# Altium footprint library 452006250-3#NIBP涡轮驱动板V2.001.PcbLib: 80 footprints (part 4 of 5)
Each footprint in its own frame and in the unit in brackets; x right, y up, seen from the top. Pads: shape width x height; smd on the part's side, far side on the other; paste and mask are expansions set on the pad; w line width, h text height; cw(c..) or ccw(c..) is an arc to the next point about the centre after c.
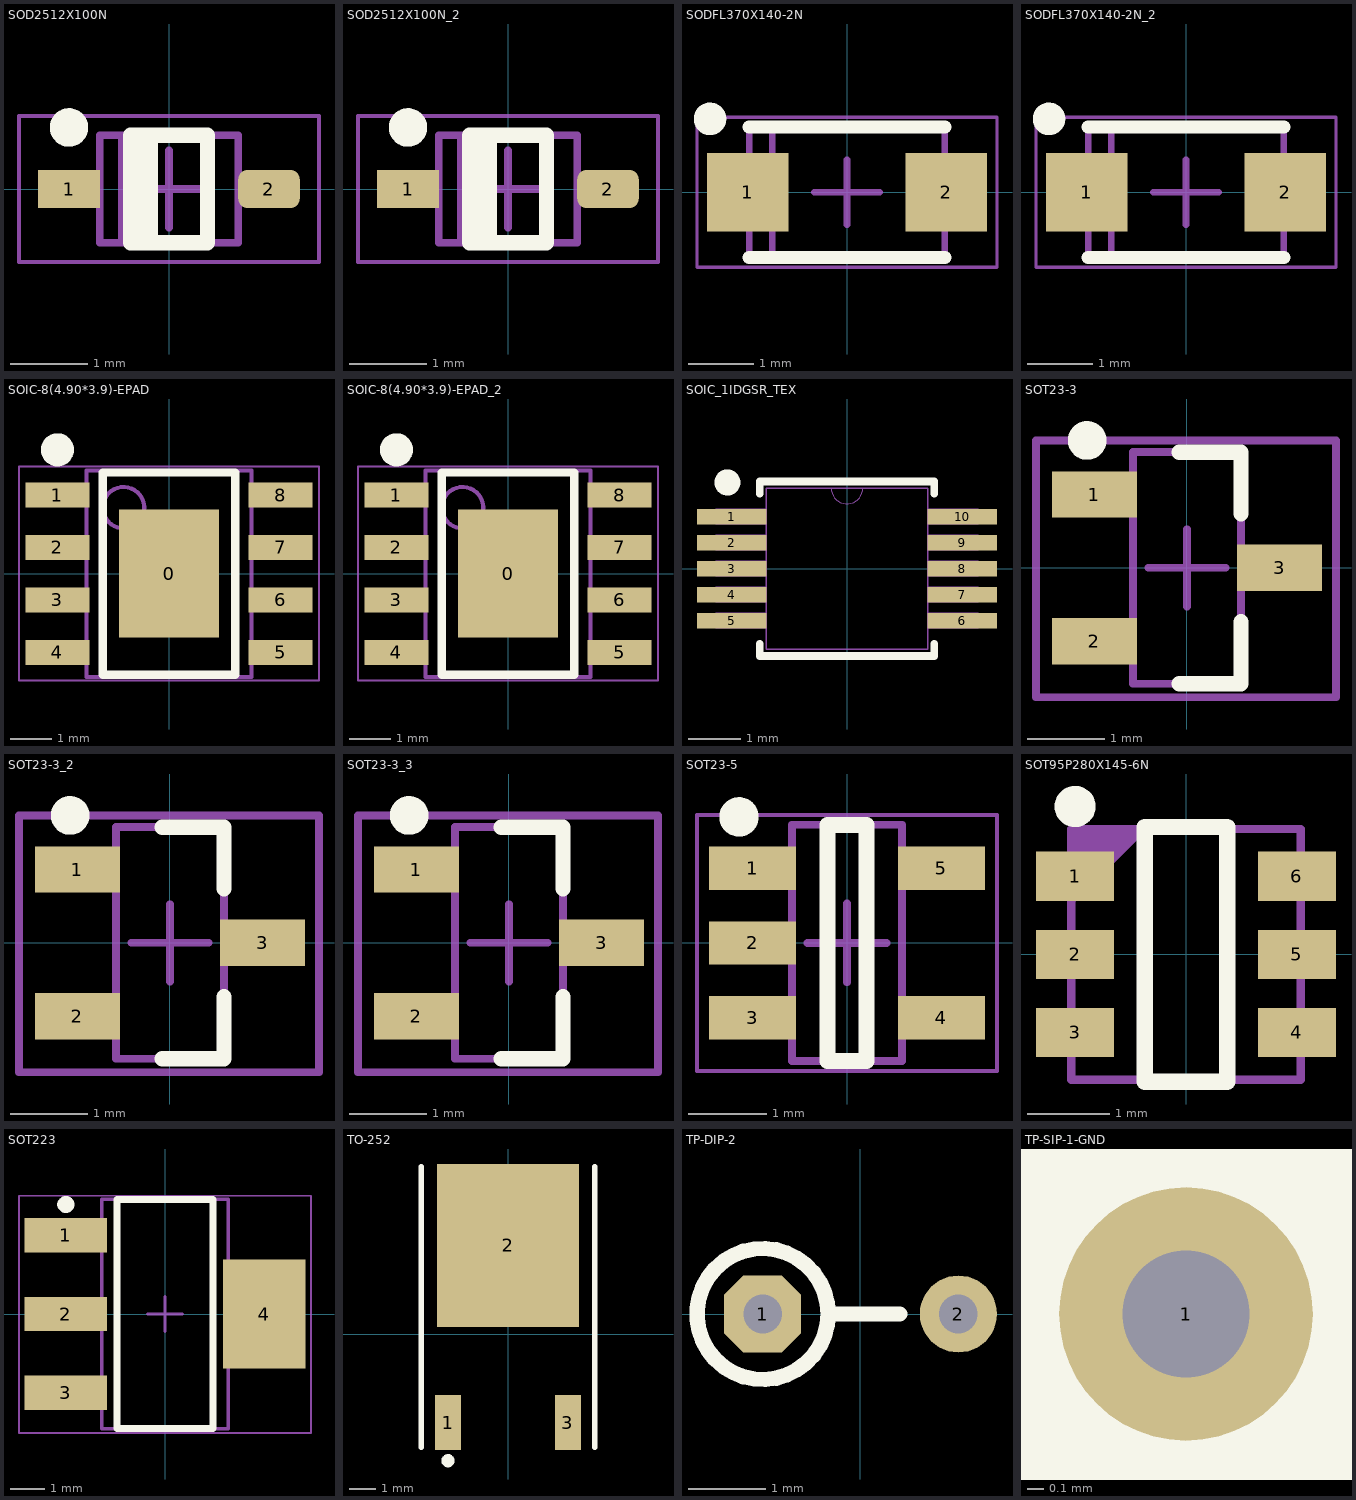
[diagram p3: the footprints below, top view; thin cyan lines are the x and y axes]

## SOD2512X100N [mm]
pads (2):
  rect 0.8x0.5 smd: 1(-1.3,0)
  rrect50% 0.8x0.5 smd: 2(1.3,0)
Top Overlay:
  circle w0.25: c-1.3,0.8 r0.125
  lines w0.2: -0.373,-0.7 -0.373,0.7 ; -0.246,-0.7 -0.246,0.7 ; -0.5,-0.7 0.5,-0.7 0.5,0.7 -0.5,0.7 -0.5,-0.7
Mechanical 13:
  lines w0.1: -0.611,-0.7 -0.611,0.7 ; -0.9,-0.7 0.9,-0.7 0.9,0.7 -0.9,0.7 -0.9,-0.7
Mechanical 15:
  lines w0.05: -1.95,-0.95 1.95,-0.95 1.95,0.95 -1.95,0.95 -1.95,-0.95
  lines w0.1: -0.5,0 0.5,0 ; 0,-0.5 0,0.5
3D body "SOD323-N.step": height 1.1, standoff 0.01, extent -1.243,-0.7 1.243,0.7

## SOD2512X100N_2 [mm]
pads (2):
  rect 0.8x0.5 smd: 1(-1.3,0)
  rrect50% 0.8x0.5 smd: 2(1.3,0)
Top Overlay:
  circle w0.25: c-1.3,0.8 r0.125
  lines w0.2: -0.373,-0.7 -0.373,0.7 ; -0.246,-0.7 -0.246,0.7 ; -0.5,-0.7 -0.5,0.7 0.5,0.7 0.5,-0.7 -0.5,-0.7
Mechanical 13:
  lines w0.1: -0.611,-0.7 -0.611,0.7 ; -0.9,-0.7 -0.9,0.7 0.9,0.7 0.9,-0.7 -0.9,-0.7
Mechanical 15:
  lines w0.05: -1.95,-0.95 -1.95,0.95 1.95,0.95 1.95,-0.95 -1.95,-0.95
  lines w0.1: -0.5,0 0.5,0 ; 0,-0.5 0,0.5
3D body "SOD323-N.step": height 1.1, standoff 0.01, extent -1.243,-0.7 1.243,0.7

## SODFL370X140-2N [mm]
pads (2):
  rect 1.25x1.2 smd: 1(-1.525,0) 2(1.525,0)
Top Overlay:
  circle w0.25: c-2.1,1.125 r0.125
  lines w0.2: -1.5,-1 1.5,-1 ; -1.5,1 1.5,1
Mechanical 13:
  lines w0.1: -1.143,-1 -1.143,1 ; -1.5,-1 1.5,-1 1.5,1 -1.5,1 -1.5,-1
Mechanical 15:
  lines w0.05: -2.3,-1.15 2.3,-1.15 2.3,1.15 -2.3,1.15 -2.3,-1.15
  lines w0.1: -0.5,0 0.5,0 ; 0,-0.5 0,0.5
3D body "SODFL370X140-2N.step": height 1.4, standoff 0, extent -1.85,-1 1.85,1

## SODFL370X140-2N_2 [mm]
pads (2):
  rect 1.25x1.2 smd: 1(-1.525,0) 2(1.525,0)
Top Overlay:
  circle w0.25: c-2.1,1.125 r0.125
  lines w0.2: -1.5,-1 1.5,-1 ; -1.5,1 1.5,1
Mechanical 13:
  lines w0.1: -1.143,-1 -1.143,1 ; -1.5,-1 1.5,-1 1.5,1 -1.5,1 -1.5,-1
Mechanical 15:
  lines w0.05: -2.3,-1.15 2.3,-1.15 2.3,1.15 -2.3,1.15 -2.3,-1.15
  lines w0.1: -0.5,0 0.5,0 ; 0,-0.5 0,0.5
3D body "SODFL370X140-2N.step": height 1.4, standoff 0, extent -1.85,-1 1.85,1

## SOIC-8(4.90*3.9)-EPAD [mm] "SOIC, 8-Leads, Body 4.90x3.90mm, Pitch 1.27mm, IPC Medium Density"
height 1.75
pads (9):
  rect 2.41x3.1 smd: 0(0,0)
  rect 1.55x0.6 smd: 1(-2.7,1.905) 2(-2.7,0.635) 3(-2.7,-0.635) 4(-2.7,-1.905) 5(2.7,-1.905) 6(2.7,-0.635) 7(2.7,0.635) 8(2.7,1.905)
Top Overlay:
  circle w0.5: c-2.7,3 r0.15
  lines w0.203: -1.6,-2.45 -1.6,2.45 1.6,2.45 1.6,-2.45 -1.6,-2.45
Mechanical 13:
  circle w0.1: c-1.1,1.6 r0.5
  lines w0.1: -2,-2.5 -2,2.5 2,2.5 2,-2.5 -2,-2.5
Mechanical 15:
  lines w0.05: -0.5,0 0.5,0 ; 0,-0.5 0,0.5 ; -3.632,-2.591 3.632,-2.591 3.632,2.591 -3.632,2.591 -3.632,-2.591
  lines w0.1: -0.5,0 0.5,0 ; 0,-0.5 0,0.5
Mechanical 16:
  circle w0.05: c0,0 r0.35
3D body: height 1.75, standoff 0.1, extent -2,-2.5 2,2.5

## SOIC-8(4.90*3.9)-EPAD_2 [mm]
pads (9):
  rect 2.41x3.1 smd: 0(0,0)
  rect 1.55x0.6 smd: 1(-2.7,1.905) 2(-2.7,0.635) 3(-2.7,-0.635) 4(-2.7,-1.905) 5(2.7,-1.905) 6(2.7,-0.635) 7(2.7,0.635) 8(2.7,1.905)
Top Overlay:
  circle w0.5: c-2.7,3 r0.15
  lines w0.203: -1.6,-2.45 1.6,-2.45 1.6,2.45 -1.6,2.45 -1.6,-2.45
Mechanical 13:
  circle w0.1: c-1.1,1.6 r0.5
  lines w0.1: -2,-2.5 2,-2.5 2,2.5 -2,2.5 -2,-2.5
Mechanical 15:
  lines w0.05: -0.5,0 0.5,0 ; 0,-0.5 0,0.5 ; -3.632,-2.591 -3.632,2.591 3.632,2.591 3.632,-2.591 -3.632,-2.591
  lines w0.1: -0.5,0 0.5,0 ; 0,-0.5 0,0.5
Mechanical 16:
  circle w0.05: c0,0 r0.35
3D body: height 1.75, standoff 0.1, extent -2,-2.5 2,2.5

## SOIC_1IDGSR_TEX [mm]
pads (10):
  rect 1.333x0.3 smd paste+0 mask+0: 1(-2.216,1) 2(-2.216,0.5) 3(-2.216,0) 4(-2.216,-0.5) 5(-2.216,-1) 6(2.216,-1) 7(2.216,-0.5) 8(2.216,0) 9(2.216,0.5) 10(2.216,1)
Top Overlay:
  circle w0.25: c-2.298,1.656 r0.125
  lines w0.152: -1.676,-1.447 -1.676,-1.676 1.676,-1.676 1.676,-1.447 ; -1.676,1.447 -1.676,1.676 1.676,1.676 1.676,1.447
Mechanical 13:
  lines w0: -0.305,1.549 ccw(c0,1.549) 0.305,1.549
  lines w0.025: -2.527,-1.14 -2.527,-0.861 -1.549,-0.861 -1.549,-1.14 -2.527,-1.14 ; -2.527,-0.64 -1.549,-0.64 -1.549,-0.36 -2.527,-0.36 -2.527,-0.64 ; -2.527,-0.14 -1.549,-0.14 -1.549,0.14 -2.527,0.14 -2.527,-0.14 ; -2.527,0.36 -1.549,0.36 -1.549,0.64 -2.527,0.64 -2.527,0.36 ; -2.527,0.861 -1.549,0.861 -1.549,1.14 -2.527,1.14 -2.527,0.861 ; -1.549,-1.549 -1.549,1.549 1.549,1.549 1.549,-1.549 -1.549,-1.549 ; 1.549,-1.14 2.527,-1.14 2.527,-0.861 1.549,-0.861 1.549,-1.14 ; 1.549,-0.64 2.527,-0.64 2.527,-0.36 1.549,-0.36 1.549,-0.64 ; 1.549,-0.14 2.527,-0.14 2.527,0.14 1.549,0.14 1.549,-0.14 ; 1.549,0.36 2.527,0.36 2.527,0.64 1.549,0.64 1.549,0.36 ; 1.549,0.861 2.527,0.861 2.527,1.14 1.549,1.14 1.549,0.861
  text "*" at -1.486,0.203 h1.27
3D body "SOIC_1IDGSR_TEX.step": height 1.09, standoff 0, extent -2.527,-1.549 2.527,1.549

## SOT23-3 [mm] "SOT23, 3-Leads, Body 2.92x2.78mm, Pitch 0.95mm, IPC Medium Density"
height 1.25
pads (3):
  rect 1.1x0.6 smd: 1(-1.2,0.95) 2(-1.2,-0.95) 3(1.2,0)
Top Overlay:
  circle w0.25: c-1.293,1.651 r0.125
  lines w0.2: -0.1,-1.5 0.7,-1.5 0.7,-0.7 ; -0.1,1.5 0.7,1.5 0.7,0.7
Mechanical 13:
  lines w0.1: -0.7,-1.5 -0.7,1.5 0.7,1.5 0.7,-1.5 -0.7,-1.5
Mechanical 15:
  lines w0.1: -0.5,0 0.5,0 ; 0,-0.5 0,0.5 ; -1.956,-1.676 -1.956,1.651 1.93,1.651 1.93,-1.676 -1.956,-1.676
  text "S-E" at -1.924,-0.432 h0.51
  text "G-B" at -0.146,0.787 h0.51
  text "D-C" at 0.362,-0.991 h0.51
3D body: height 1.1, standoff 0, extent -0.7,-1.5 0.7,1.5
3D body: height 0.8, standoff 0, extent -1.5,-1.15 -0.7,-0.75
3D body: height 0.8, standoff 0, extent -1.5,0.75 -0.7,1.15
3D body: height 0.8, standoff 0, extent 0.7,-0.2 1.5,0.2

## SOT23-3_2 [mm]
pads (3):
  rect 1.1x0.6 smd: 1(-1.2,0.95) 2(-1.2,-0.95) 3(1.2,0)
Top Overlay:
  circle w0.25: c-1.293,1.651 r0.125
  lines w0.2: -0.1,-1.5 0.7,-1.5 0.7,-0.7 ; -0.1,1.5 0.7,1.5 0.7,0.7
Mechanical 13:
  lines w0.1: -0.7,-1.5 -0.7,1.5 0.7,1.5 0.7,-1.5 -0.7,-1.5
Mechanical 15:
  lines w0.1: -0.5,0 0.5,0 ; 0,-0.5 0,0.5 ; -1.956,-1.676 -1.956,1.651 1.93,1.651 1.93,-1.676 -1.956,-1.676
  text "S-E" at -1.924,-0.432 h0.51
  text "G-B" at -0.146,0.787 h0.51
  text "D-C" at 0.362,-0.991 h0.51
3D body: height 1.1, standoff 0, extent -0.7,-1.5 0.7,1.5
3D body: height 0.8, standoff 0, extent -1.5,-1.15 -0.7,-0.75
3D body: height 0.8, standoff 0, extent -1.5,0.75 -0.7,1.15
3D body: height 0.8, standoff 0, extent 0.7,-0.2 1.5,0.2

## SOT23-3_3 [mm]
pads (3):
  rect 1.1x0.6 smd: 1(-1.2,0.95) 2(-1.2,-0.95) 3(1.2,0)
Top Overlay:
  circle w0.25: c-1.293,1.651 r0.125
  lines w0.2: -0.1,-1.5 0.7,-1.5 0.7,-0.7 ; -0.1,1.5 0.7,1.5 0.7,0.7
Mechanical 13:
  lines w0.1: -0.7,-1.5 -0.7,1.5 0.7,1.5 0.7,-1.5 -0.7,-1.5
Mechanical 15:
  lines w0.1: -0.5,0 0.5,0 ; 0,-0.5 0,0.5 ; -1.956,-1.676 -1.956,1.651 1.93,1.651 1.93,-1.676 -1.956,-1.676
  text "S-E" at -1.924,-0.432 h0.51
  text "G-B" at -0.146,0.787 h0.51
  text "D-C" at 0.362,-0.991 h0.51
3D body: height 1.1, standoff 0, extent -0.7,-1.5 0.7,1.5
3D body: height 0.8, standoff 0, extent -1.5,-1.15 -0.7,-0.75
3D body: height 0.8, standoff 0, extent -1.5,0.75 -0.7,1.15
3D body: height 0.8, standoff 0, extent 0.7,-0.2 1.5,0.2

## SOT23-5 [mm] "SOT23, 5-Leads, Body 2.90x2.80mm, Pitch 0.95mm, IPC Medium Density"
height 1
pads (5):
  rect 1.1x0.55 smd: 1(-1.2,0.95) 2(-1.2,0) 3(-1.2,-0.95) 4(1.2,-0.95) 5(1.2,0.95)
Top Overlay:
  circle w0.25: c-1.372,1.6 r0.125
  lines w0.203: -0.25,-1.5 -0.25,1.5 0.25,1.5 0.25,-1.5 -0.25,-1.5
Mechanical 13:
  lines w0.1: -0.7,-1.5 -0.7,1.5 0.7,1.5 0.7,-1.5 -0.7,-1.5
Mechanical 15:
  lines w0.05: -1.905,-1.626 1.905,-1.626 1.905,1.626 -1.905,1.626 -1.905,-1.626
  lines w0.1: -0.5,0 0.5,0 -0.5,0 ; 0,-0.5 0,0.5 0,-0.5
3D body: height 0.8, standoff 0, extent 0.7,-1.15 1.5,-0.75
3D body: height 0.8, standoff 0, extent 0.7,0.75 1.5,1.15
3D body: height 0.8, standoff 0, extent -1.5,-1.15 -0.7,-0.75
3D body: height 0.8, standoff 0, extent -1.5,-0.2 -0.7,0.2
3D body: height 1.1, standoff 0, extent -0.7,-1.5 0.7,1.5
3D body: height 0.8, standoff 0, extent -1.5,0.75 -0.7,1.15

## SOT95P280X145-6N [mm] "SOT23, 6-Leads, Body 2,95x2,80mm, Pitch 0,95mm, IPC Medium Density"
height 1.45
pads (6):
  rect 0.95x0.6 smd: 1(-1.35,0.95) 2(-1.35,0) 3(-1.35,-0.95) 4(1.35,-0.95) 5(1.35,0) 6(1.35,0.95)
Top Overlay:
  circle w0.25: c-1.35,1.8 r0.125
  lines w0.2: -0.5,-1.55 -0.5,1.55 0.5,1.55 0.5,-1.55 -0.5,-1.55
Mechanical 16:
  region: -1.397,1.525 -1.397,0.593 -0.465,1.525
  lines w0.1: -1.397,-1.525 1.397,-1.525 1.397,1.525 -1.397,1.525 -1.397,-1.525
3D body "SOT95P280X145-6N.step": height 1.45, standoff 0, extent -1.4,-1.55 1.4,1.55

## SOT223 [mm] "SOT223, 4-Leads, Body 6.50x7.00mm (avg), Pitch 2.30mm, IPC Medium Density"
height 1.8
pads (4):
  rect 2.4x1 smd: 1(-2.9,2.3) 2(-2.9,0) 3(-2.9,-2.3)
  rect 2.4x3.2 smd: 4(2.9,0)
Top Overlay:
  circle w0.25: c-2.9,3.2 r0.125
  lines w0.203: -1.4,-3.35 1.4,-3.35 1.4,3.35 -1.4,3.35 -1.4,-3.35
Mechanical 13:
  lines w0.1: -1.85,-3.35 1.85,-3.35 1.85,3.35 -1.85,3.35 -1.85,-3.35
Mechanical 15:
  lines w0.05: -4.267,-3.48 4.267,-3.48 4.267,3.454 -4.267,3.454 -4.267,-3.48
  lines w0.1: -0.5,0 0.5,0 ; 0,-0.5 0,0.5
3D body: height 1.8, standoff 0.02, extent -1.85,-3.35 1.85,3.35

## TO-252 [mm]
height 0.55
pads (3):
  rect 1x2.1 smd: 1(-2.285,-3.375) 3(2.285,-3.375)
  rect 5.4x6.2 smd: 2(0,3.375)
Top Overlay:
  circle w0.25: c-2.285,-4.826 r0.125
  lines w0.203: -3.3,-4.325 -3.3,6.375 ; 3.3,-4.325 3.3,6.375
3D body "Infineon-PG-TO252-3-902_3D_01_STP-Package-v02_00-EN.stp": height 2.52, standoff 0, extent -3.3,-4 3.3,6

## TP-DIP-2 [mm]
height 2.62
pads (2):
  oct 1x1 hole 0.5: 1(-1.27,0)
  round 1 hole 0.5: 2(1.27,0)
Top Overlay:
  circle w0.2: c-1.27,0 r0.85
  lines w0.2: -0.42,0 0.508,0

## TP-SIP-1-GND [mil]
pads (1):
  round 60 hole 30: 1(0,0)
Top Overlay:
  lines w20: -35.49,-35.49 0,0 ; -35.49,-35.49 -35.49,35.49 ; -35.49,-35.49 35.49,-35.49 ; -35.49,35.49 0,0 ; -35.49,35.49 35.49,35.49 ; 0,0 35.49,35.49 ; 0,0 35.49,-35.49 ; 35.49,-35.49 35.49,35.49